# EAGLE library part 62P22_MIRRORED (library Drehencoder - Grayhill)
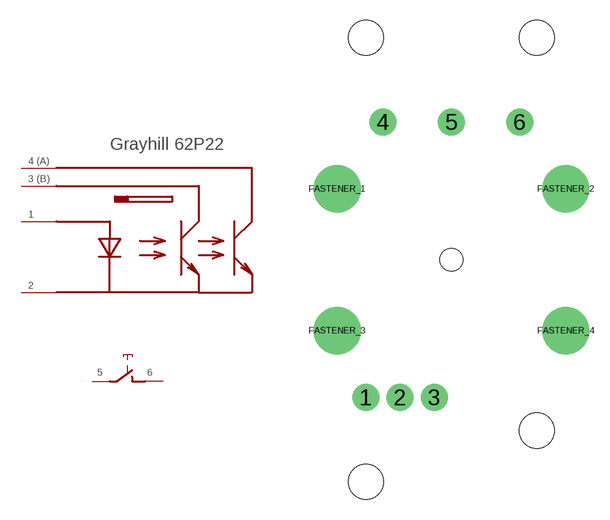
[diagram p1: symbol with the pads of 62P22_MIRRORED; footprint 62P22_MIRRORED]

Designator prefix -; gates G$1=ENCODER G$2=PUSHBUTTON

## 62P22_MIRRORED  [62P22_MIRRORED]
1  G$1:1  in
2  G$1:2  in
3  G$1:3  out
4  G$1:4  out
5  G$2:1
6  G$2:2

## Footprint 62P22_MIRRORED (pad centres in mm)
Grayhill 62P22 vorbereitete Geometrie für die Frontplattenmontage per Einlötgewinde
drill 1.1 pad 2: 1 -6.35,-10.236; 2 -3.81,-10.236; 3 -1.27,-10.236; 4 -5.08,10.236; 5 0,10.236; 6 5.08,10.236
drill 2.5 pad 3.302: FASTENER_1 -8.495,5.27; FASTENER_2 8.505,5.27; FASTENER_3 -8.495,-5.27; FASTENER_4 8.505,-5.27
hole 1.7 at 0,0
hole 2.6 at -6.35,16.51
hole 2.6 at 6.35,16.51
hole 2.6 at -6.35,-16.51
hole 2.6 at 6.35,-12.7